# Altium footprint library TE_6-534998-5.PcbLib: 1 footprints
Each footprint in its own frame and in the unit in brackets; x right, y up, seen from the top. Pads: shape width x height; smd on the part's side, far side on the other; paste and mask are expansions set on the pad; w line width, h text height; cw(c..) or ccw(c..) is an arc to the next point about the centre after c.
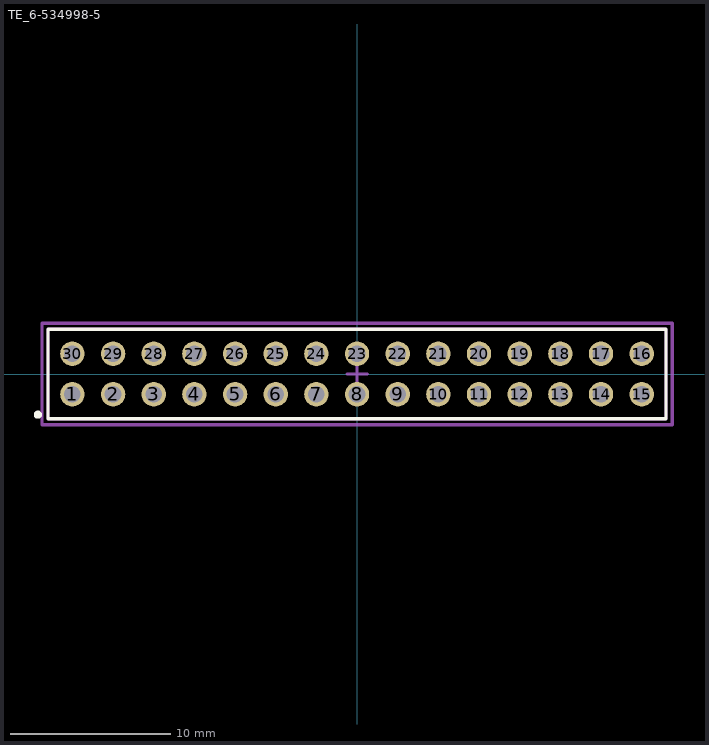
[diagram p0: the footprint, top view; thin cyan lines are the x and y axes]

## TE_6-534998-5 [mil]
pads (30):
  round 60 hole 41: 1(-700,-50) 2(-600,-50) 3(-500,-50) 4(-400,-50) 5(-300,-50) 6(-200,-50) 7(-100,-50) 8(0,-50) 9(100,-50) 10(200,-50) 11(300,-50) 12(400,-50) 13(500,-50) 14(600,-50) 15(700,-50) 16(700,50) 17(600,50) 18(500,50) 19(400,50) 20(300,50) 21(200,50) 22(100,50) 23(0,50) 24(-100,50) 25(-200,50) 26(-300,50) 27(-400,50) 28(-500,50) 29(-600,50) 30(-700,50)
Top Overlay:
  circle w10: c-785,-100 r5
  lines w7.87: -760,-110 760,-110 760,110 -760,110 -760,-110
Mechanical 15:
  lines w7.87: -25,0 25,0 ; 0,-25 0,25 ; -775,-125 -775,125 775,125 775,-125 -775,-125
Mechanical 17:
  lines w7.87: -760,-110 -760,110 760,110 760,-110 -760,-110
  text ".Designator" at -720,-65 h60
Mechanical 19:
  lines w7.87: -760,-110 -760,110 760,110 760,-110 -760,-110
  text ".Comment" at -725,-70 h60
3D body: height 265, standoff -125, extent -749.99,-98.99 750.01,99.01